# Altium schematic symbol library SCH - AMP AUDIO - ANALOG SSM2529ACBZ-RL.SchLib: 1 symbol
Pins are listed as number, name and electrical type; pins without a type are passive.

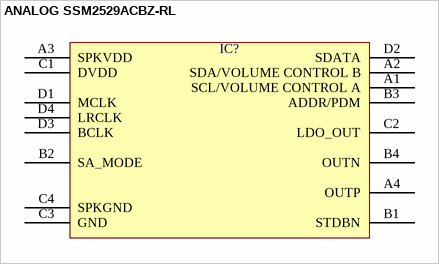
[diagram p0: symbol ANALOG SSM2529ACBZ-RL]

## ANALOG SSM2529ACBZ-RL
designator IC?  (value not drawn)
pins: A1 SCL/VOLUME CONTROL A, A2 SDA/VOLUME CONTROL B, A3 SPKVDD, A4 OUTP, B1 STDBN, B2 SA_MODE, B3 ADDR/PDM, B4 OUTN, C1 DVDD, C2 LDO_OUT, C3 GND, C4 SPKGND, D1 MCLK, D2 SDATA, D3 BCLK, D4 LRCLK